# EAGLE library part 6PIN_3X2 (library connector)
2.54mm pitch 3x2 pin Connector (Available as Headers or Pins)
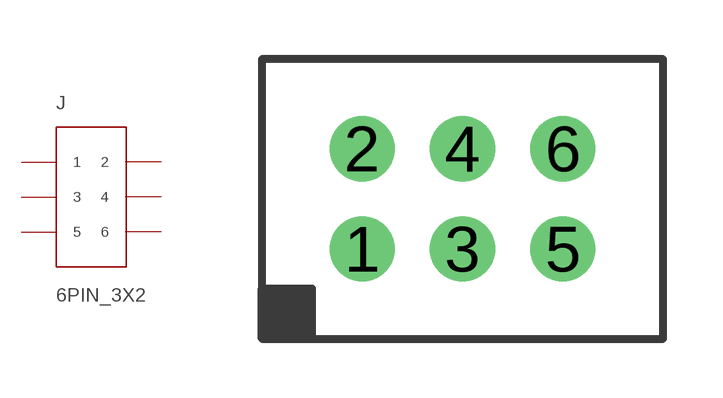
[diagram p2: symbol with the pads of 6PIN_3X2(2.54); footprint 6PIN_3X2(2.54)]

Designator prefix J

## 6PIN_3X2  [6PIN_3X2(2.54)]
1  1
2  2
3  3
4  4
5  5
6  6

## Footprint 6PIN_3X2(2.54) (pad centres in mm)
drill 1.1: 1 -2.54,-2.54; 2 -2.54,0; 3 0,-2.54; 4 0,0; 5 2.54,-2.54; 6 2.54,0